# Altium schematic symbol library SCH - Oscillators-TCXO - 4p - ECS-TXO-2016-33-160-TR.SchLib: 1 symbol
Pins are listed as number, name and electrical type; pins without a type are passive.

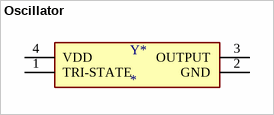
[diagram p0: symbol Oscillator]

## Oscillator
designator Y*
pins: 1 TRI-STATE, 2 GND, 3 OUTPUT, 4 VDD